# Altium footprint library IC.PcbLib: 2 footprints
Each footprint in its own frame and in the unit in brackets; x right, y up, seen from the top. Pads: shape width x height; smd on the part's side, far side on the other; paste and mask are expansions set on the pad; w line width, h text height; cw(c..) or ccw(c..) is an arc to the next point about the centre after c.
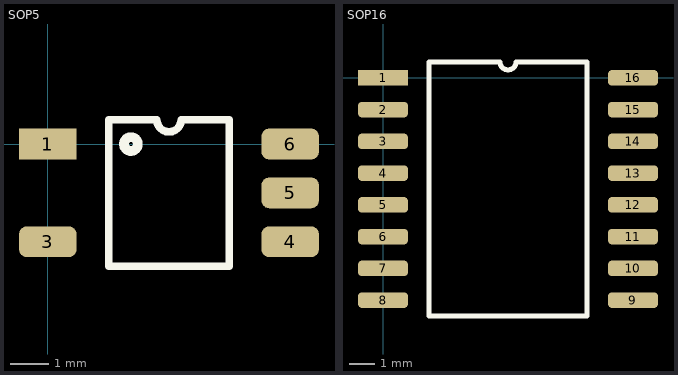
[diagram p0: the footprints below, top view; thin cyan lines are the x and y axes]

## SOP5 [mm]
pads (5):
  rect 1.5x0.8 smd: 1(0,0)
  rrect50% 1.5x0.8 smd: 3(0,-2.54) 4(6.3,-2.54) 5(6.3,-1.27) 6(6.3,0)
Top Overlay:
  circle w0.254: c2.159,0 r0.18
  lines w0.2: 1.585,-3.175 4.715,-3.175 4.715,0.635 3.467,0.635 cw(c3.15,0.635) 2.832,0.635 1.585,0.635 1.585,-3.175

## SOP16 [mm]
pads (16):
  rect 2x0.63 smd: 1(0,0)
  rrect50% 2x0.63 smd: 2(0,-1.27) 3(0,-2.54) 4(0,-3.81) 5(0,-5.08) 6(0,-6.35) 7(0,-7.62) 8(0,-8.89) 9(10,-8.89) 10(10,-7.62) 11(10,-6.35) 12(10,-5.08) 13(10,-3.81) 14(10,-2.54) 15(10,-1.27) 16(10,0)
Top Overlay:
  lines w0.2: 1.835,-9.525 1.835,0.635 4.683,0.635 ccw(c5,0.635) 5.318,0.635 8.165,0.635 8.165,-9.525 1.835,-9.525